# Altium footprint library ELCAP_D20_P10.PcbLib: 1 footprints
Each footprint in its own frame and in the unit in brackets; x right, y up, seen from the top. Pads: shape width x height; smd on the part's side, far side on the other; paste and mask are expansions set on the pad; w line width, h text height; cw(c..) or ccw(c..) is an arc to the next point about the centre after c.
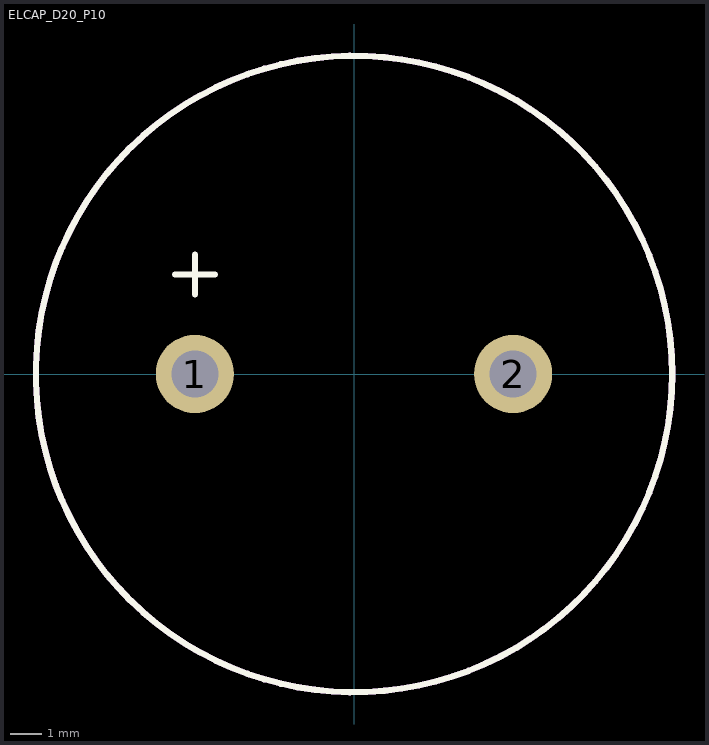
[diagram p0: the footprint, top view; thin cyan lines are the x and y axes]

## ELCAP_D20_P10 [mm]
pads (2):
  round 2.5 hole 1.5: 1(-5.08,0) 2(5.08,0)
Top Overlay:
  circle w0.2: c0,0 r10.16
  lines w0.2: -5.715,3.175 -4.445,3.175 ; -5.08,2.54 -5.08,3.81
TopAssy:
  circle w0.2: c0,0 r10.16
  lines w0.2: -5.715,0 -4.445,0 ; -5.08,-0.635 -5.08,0.635
3D body: height 45, standoff 0, extent -10,-10 10,10